# EAGLE library part NEMACONN (library Nema connector)
This is for the ANSI 136.41 NEMA connector N is neutral L is line L1 is activation 1 and 2 are for dimmer 3 and 4 for other uses
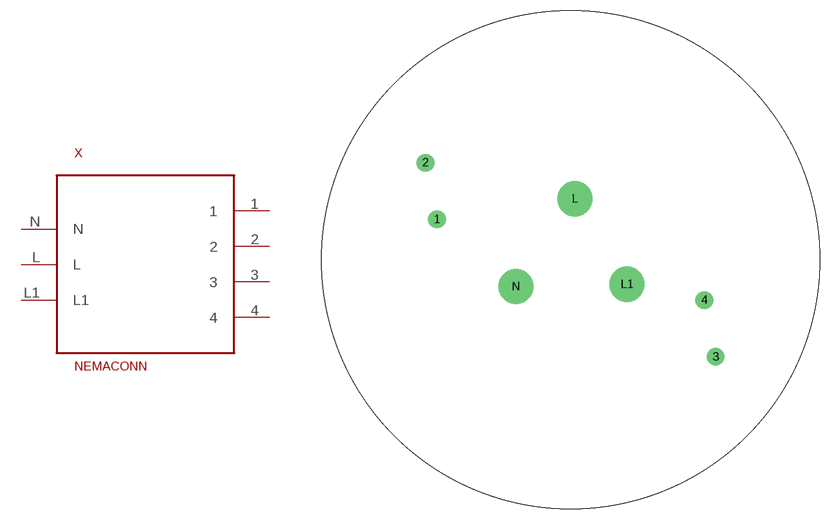
[diagram p0: symbol with the pads of NEMA; footprint NEMA]

Designator prefix X

## NEMACONN  [NEMA]
1  1
2  2
3  3
4  4
L  L
L1  L1
N  N

## Footprint NEMA (pad centres in mm)
drill 1.5 pad 2.5: 1 -19.03,5.75; 2 -20.67,13.83; 3 20.65,-13.83; 4 19.03,-5.74
drill 3 pad 5: L 0.61,8.68; L1 8.03,-3.49; N -7.8,-3.82